# EAGLE library part MIC2026 (library misc-ics)
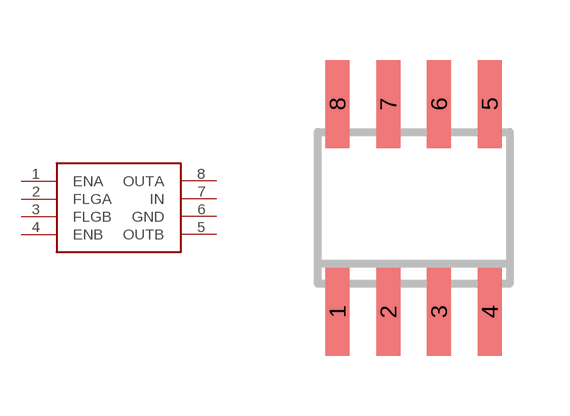
[diagram p2: symbol with the pads of SO8; footprint SO8]

Designator prefix -

## MIC2026  [SO8]
1  ENA
2  FLGA
3  FLGB
4  ENB
5  OUTB
6  GND
7  IN
8  OUTA

## Footprint SO8 (pad centres in mm)
SMALL OUTLINE INTEGRATED CIRCUIT
smd 0.6 x 2.2: 1 -1.905,-2.6; 2 -0.635,-2.6; 3 0.635,-2.6; 4 1.905,-2.6; 5 1.905,2.6; 6 0.635,2.6; 7 -0.635,2.6; 8 -1.905,2.6